# EAGLE library part PROTO_GRID (library talon_lbr)
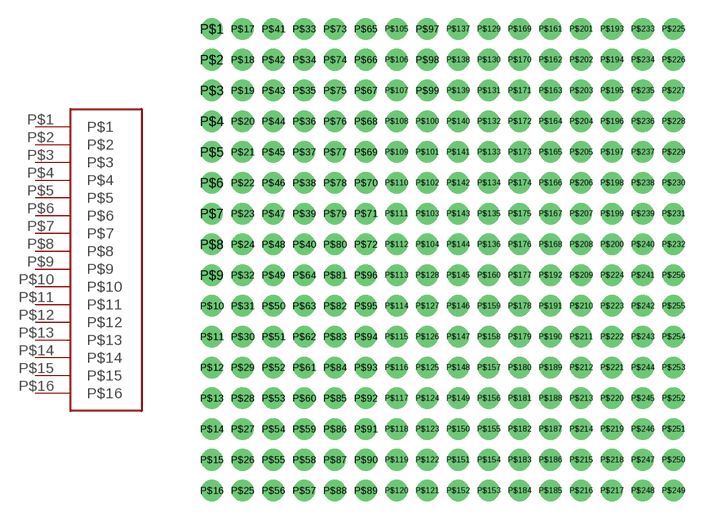
[diagram p0: symbol with the pads of PROTO_GRID16; footprint PROTO_GRID16]

Designator prefix -

## PROTO_GRID  [PROTO_GRID16]
P$1  P$1
P$2  P$2
P$3  P$3
P$4  P$4
P$5  P$5
P$6  P$6
P$7  P$7
P$8  P$8
P$9  P$9
P$10  P$10
P$11  P$11
P$12  P$12
P$13  P$13
P$14  P$14
P$15  P$15
P$16  P$16

## Footprint PROTO_GRID16 (pad centres in mm)
drill 0.8 pad 1.778: P$1 0,38.1; P$2 0,35.56; P$3 0,33.02; P$4 0,30.48; P$5 0,27.94; P$6 0,25.4; P$7 0,22.86; P$8 0,20.32; P$9 0,17.78; P$10 0,15.24; P$11 0,12.7; P$12 0,10.16; P$13 0,7.62; P$14 0,5.08; P$15 0,2.54; P$16 0,0; P$17 2.54,38.1; P$18 2.54,35.56; P$19 2.54,33.02; P$20 2.54,30.48; P$21 2.54,27.94; P$22 2.54,25.4; P$23 2.54,22.86; P$24 2.54,20.32; P$25 2.54,0; P$26 2.54,2.54; P$27 2.54,5.08; P$28 2.54,7.62; P$29 2.54,10.16; P$30 2.54,12.7; P$31 2.54,15.24; P$32 2.54,17.78; P$33 7.62,38.1; P$34 7.62,35.56; P$35 7.62,33.02; P$36 7.62,30.48; P$37 7.62,27.94; P$38 7.62,25.4; P$39 7.62,22.86; P$40 7.62,20.32; P$41 5.08,38.1; P$42 5.08,35.56; P$43 5.08,33.02; P$44 5.08,30.48; P$45 5.08,27.94; P$46 5.08,25.4; P$47 5.08,22.86; P$48 5.08,20.32; P$49 5.08,17.78; P$50 5.08,15.24; P$51 5.08,12.7; P$52 5.08,10.16; P$53 5.08,7.62; P$54 5.08,5.08; P$55 5.08,2.54; P$56 5.08,0; P$57 7.62,0; P$58 7.62,2.54; P$59 7.62,5.08; P$60 7.62,7.62; P$61 7.62,10.16; P$62 7.62,12.7; P$63 7.62,15.24; P$64 7.62,17.78; P$65 12.7,38.1; P$66 12.7,35.56; P$67 12.7,33.02; P$68 12.7,30.48; P$69 12.7,27.94; P$70 12.7,25.4; P$71 12.7,22.86; P$72 12.7,20.32; P$73 10.16,38.1; P$74 10.16,35.56; P$75 10.16,33.02; P$76 10.16,30.48; P$77 10.16,27.94; P$78 10.16,25.4; P$79 10.16,22.86; P$80 10.16,20.32; P$81 10.16,17.78; P$82 10.16,15.24; P$83 10.16,12.7; P$84 10.16,10.16; P$85 10.16,7.62; P$86 10.16,5.08; P$87 10.16,2.54; P$88 10.16,0; P$89 12.7,0; P$90 12.7,2.54; P$91 12.7,5.08; P$92 12.7,7.62; P$93 12.7,10.16; P$94 12.7,12.7; P$95 12.7,15.24; P$96 12.7,17.78; P$97 17.78,38.1; P$98 17.78,35.56; P$99 17.78,33.02; P$100 17.78,30.48; P$101 17.78,27.94; P$102 17.78,25.4; P$103 17.78,22.86; P$104 17.78,20.32; P$105 15.24,38.1; P$106 15.24,35.56; P$107 15.24,33.02; P$108 15.24,30.48; P$109 15.24,27.94; P$110 15.24,25.4; P$111 15.24,22.86; P$112 15.24,20.32; P$113 15.24,17.78; P$114 15.24,15.24; P$115 15.24,12.7; P$116 15.24,10.16; P$117 15.24,7.62; P$118 15.24,5.08; P$119 15.24,2.54; P$120 15.24,0; P$121 17.78,0; P$122 17.78,2.54; P$123 17.78,5.08; P$124 17.78,7.62; P$125 17.78,10.16; P$126 17.78,12.7; P$127 17.78,15.24; P$128 17.78,17.78; P$129 22.86,38.1; P$130 22.86,35.56; P$131 22.86,33.02; P$132 22.86,30.48; P$133 22.86,27.94; P$134 22.86,25.4; P$135 22.86,22.86; P$136 22.86,20.32; P$137 20.32,38.1; P$138 20.32,35.56; P$139 20.32,33.02; P$140 20.32,30.48; P$141 20.32,27.94; P$142 20.32,25.4; P$143 20.32,22.86; P$144 20.32,20.32; P$145 20.32,17.78; P$146 20.32,15.24; P$147 20.32,12.7; P$148 20.32,10.16; P$149 20.32,7.62; P$150 20.32,5.08; P$151 20.32,2.54; P$152 20.32,0; P$153 22.86,0; P$154 22.86,2.54; P$155 22.86,5.08; P$156 22.86,7.62; P$157 22.86,10.16; P$158 22.86,12.7; P$159 22.86,15.24; P$160 22.86,17.78; P$161 27.94,38.1; P$162 27.94,35.56; P$163 27.94,33.02; P$164 27.94,30.48; P$165 27.94,27.94; P$166 27.94,25.4; P$167 27.94,22.86; P$168 27.94,20.32; P$169 25.4,38.1; P$170 25.4,35.56; P$171 25.4,33.02; P$172 25.4,30.48; P$173 25.4,27.94; P$174 25.4,25.4; P$175 25.4,22.86; P$176 25.4,20.32; P$177 25.4,17.78; P$178 25.4,15.24; P$179 25.4,12.7; P$180 25.4,10.16; P$181 25.4,7.62; P$182 25.4,5.08; P$183 25.4,2.54; P$184 25.4,0; P$185 27.94,0; P$186 27.94,2.54; P$187 27.94,5.08; P$188 27.94,7.62; P$189 27.94,10.16; P$190 27.94,12.7; P$191 27.94,15.24; P$192 27.94,17.78; P$193 33.02,38.1; P$194 33.02,35.56; P$195 33.02,33.02; P$196 33.02,30.48; P$197 33.02,27.94; P$198 33.02,25.4; P$199 33.02,22.86; P$200 33.02,20.32; P$201 30.48,38.1; P$202 30.48,35.56; P$203 30.48,33.02; P$204 30.48,30.48; P$205 30.48,27.94; P$206 30.48,25.4; P$207 30.48,22.86; P$208 30.48,20.32; P$209 30.48,17.78; P$210 30.48,15.24; P$211 30.48,12.7; P$212 30.48,10.16; P$213 30.48,7.62; P$214 30.48,5.08; P$215 30.48,2.54; P$216 30.48,0; P$217 33.02,0; P$218 33.02,2.54; P$219 33.02,5.08; P$220 33.02,7.62; P$221 33.02,10.16; P$222 33.02,12.7; P$223 33.02,15.24; P$224 33.02,17.78; P$225 38.1,38.1; P$226 38.1,35.56; P$227 38.1,33.02; P$228 38.1,30.48; P$229 38.1,27.94; P$230 38.1,25.4; P$231 38.1,22.86; P$232 38.1,20.32; P$233 35.56,38.1; P$234 35.56,35.56; P$235 35.56,33.02; P$236 35.56,30.48; P$237 35.56,27.94; P$238 35.56,25.4; P$239 35.56,22.86; P$240 35.56,20.32; P$241 35.56,17.78; P$242 35.56,15.24; P$243 35.56,12.7; P$244 35.56,10.16; P$245 35.56,7.62; P$246 35.56,5.08; P$247 35.56,2.54; P$248 35.56,0; P$249 38.1,0; P$250 38.1,2.54; P$251 38.1,5.08; P$252 38.1,7.62; P$253 38.1,10.16; P$254 38.1,12.7; P$255 38.1,15.24; P$256 38.1,17.78